# Altium footprint library Jump_254.PcbLib: 184 footprints (part 4 of 12)
Each footprint in its own frame and in the unit in brackets; x right, y up, seen from the top. Pads: shape width x height; smd on the part's side, far side on the other; paste and mask are expansions set on the pad; w line width, h text height; cw(c..) or ccw(c..) is an arc to the next point about the centre after c.
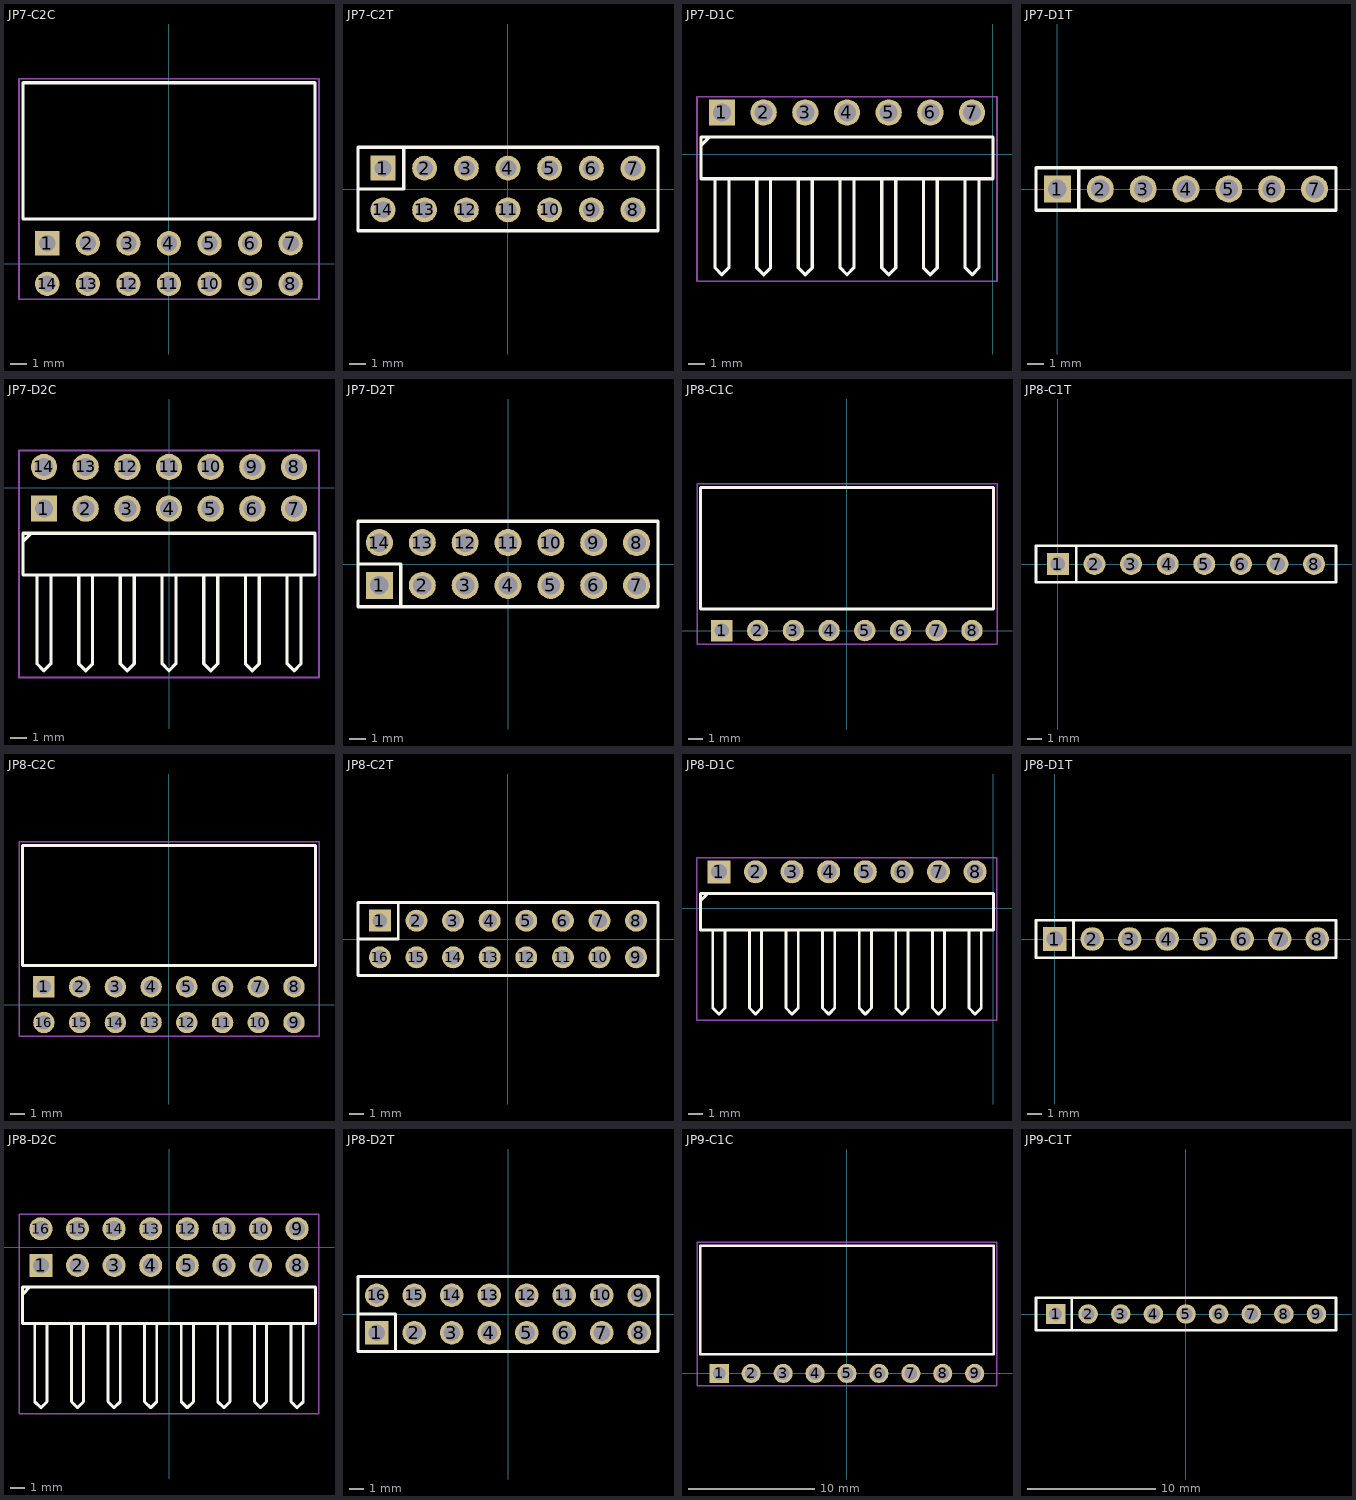
[diagram p3: the footprints below, top view; thin cyan lines are the x and y axes]

## JP7-C2C [mm] "14p 2 rows Right angle"
height 5.08
pads (14):
  rect 1.52x1.52 hole 1.02: 1(-7.62,1.27)
  round 1.52 hole 1.02: 2(-5.08,1.27) 3(-2.54,1.27) 4(0,1.27) 5(2.54,1.27) 6(5.08,1.27) 7(7.62,1.27) 8(7.62,-1.27) 9(5.08,-1.27) 10(2.54,-1.27) 11(0,-1.27) 12(-2.54,-1.27) 13(-5.08,-1.27) 14(-7.62,-1.27)
Top Overlay:
  lines w0.2: -9.144,2.794 9.144,2.794 9.144,11.316 -9.144,11.316 -9.144,2.794
Mechanical 15:
  lines w0.1: -9.39,-2.23 9.394,-2.23 9.394,11.566 -9.39,11.566 -9.39,-2.23
3D body "613014243121.stp": height 5.09, standoff -4.46, extent -9.14,-1.478 9.14,11.362

## JP7-C2T [mm] "14 pins, dual row, straight, gold plating"
height 8.5
pads (14):
  rect 1.52x1.52 hole 1.02: 1(-7.62,1.27)
  round 1.52 hole 1.02: 2(-5.08,1.27) 3(-2.54,1.27) 4(0,1.27) 5(2.54,1.27) 6(5.08,1.27) 7(7.62,1.27) 8(7.62,-1.27) 9(5.08,-1.27) 10(2.54,-1.27) 11(0,-1.27) 12(-2.54,-1.27) 13(-5.08,-1.27) 14(-7.62,-1.27)
Top Overlay:
  lines w0.2: -9.14,0 -6.35,0 -6.35,2.54 ; -9.14,-2.54 -9.14,2.54 9.14,2.54 9.14,-2.54 -9.14,-2.54
3D body "61301421821.stp": height 8.51, standoff -3.09, extent -9.14,-2.54 9.14,2.54

## JP7-D1C [mm] "7 pins, 1 row, right angled, gold plating"
height 2.54
pads (7):
  rect 1.6x1.6 hole 1.1: 1(-16.51,2.54)
  round 1.6 hole 1.1: 2(-13.97,2.54) 3(-11.43,2.54) 4(-8.89,2.54) 5(-6.35,2.54) 6(-3.81,2.54) 7(-1.27,2.54)
Top Overlay:
  lines w0.2: -17.738,0.574 -17.314,0.998 ; -16.933,-1.525 -16.933,-6.919 -16.51,-7.342 -16.087,-6.919 -16.087,-1.5 ; -14.393,-1.525 -14.393,-6.919 -13.97,-7.342 -13.547,-6.919 -13.547,-1.525 ; -11.853,-1.525 -11.853,-6.919 -11.43,-7.342 -11.007,-6.919 -11.007,-1.5 ; -9.313,-1.525 -9.313,-6.919 -8.89,-7.342 -8.467,-6.919 -8.467,-1.525 ; -6.773,-1.525 -6.773,-6.919 -6.35,-7.342 -5.927,-6.919 -5.927,-1.5 ; -4.233,-1.525 -4.233,-6.919 -3.81,-7.342 -3.387,-6.919 -3.387,-1.525 ; -1.693,-1.525 -1.693,-6.919 -1.27,-7.342 -0.847,-6.919 -0.847,-1.5 ; -17.78,-1.5 0,-1.5 0,1.04 -17.78,1.04 -17.78,-1.5
Mechanical 15:
  lines w0.1: -18.03,-7.75 -18.03,3.5 0.25,3.5 0.25,-7.75 -18.03,-7.75
3D body "61300711021.stp": height 2.55, standoff -2.99, extent -17.78,-7.524 0,2.836

## JP7-D1T [mm] "7 pins, 1 row, straight, gold plating"
height 8.54
pads (7):
  rect 1.6x1.6 hole 1.1: 1(0,0)
  round 1.6 hole 1.1: 2(2.54,0) 3(5.08,0) 4(7.62,0) 5(10.16,0) 6(12.7,0) 7(15.24,0)
Top Overlay:
  lines w0.2: 1.27,-1.27 1.27,1.27 ; -1.27,-1.27 16.51,-1.27 16.51,1.27 -1.27,1.27 -1.27,-1.27
3D body "61300711121.stp": height 8.54, standoff -3, extent -1.27,-1.27 16.51,1.27

## JP7-D2C [mm] "14 pins, dual row, right angled, gold plating"
height 5.08
pads (14):
  rect 1.6x1.6 hole 1.1: 1(-7.62,-1.27)
  round 1.6 hole 1.1: 2(-5.08,-1.27) 3(-2.54,-1.27) 4(0,-1.27) 5(2.54,-1.27) 6(5.08,-1.27) 7(7.62,-1.27) 8(7.62,1.27) 9(5.08,1.27) 10(2.54,1.27) 11(0,1.27) 12(-2.54,1.27) 13(-5.08,1.27) 14(-7.62,1.27)
Top Overlay:
  lines w0.2: -8.848,-3.236 -8.424,-2.812 ; -8.043,-5.335 -8.043,-10.729 -7.62,-11.152 -7.197,-10.729 -7.197,-5.31 ; -5.503,-5.335 -5.503,-10.729 -5.08,-11.152 -4.657,-10.729 -4.657,-5.335 ; -2.963,-5.335 -2.963,-10.729 -2.54,-11.152 -2.117,-10.729 -2.117,-5.31 ; -0.423,-5.335 -0.423,-10.729 0,-11.152 0.423,-10.729 0.423,-5.335 ; 2.117,-5.335 2.117,-10.729 2.54,-11.152 2.963,-10.729 2.963,-5.31 ; 4.657,-5.335 4.657,-10.729 5.08,-11.152 5.503,-10.729 5.503,-5.335 ; 7.197,-5.335 7.197,-10.729 7.62,-11.152 8.043,-10.729 8.043,-5.31 ; -8.89,-5.31 8.89,-5.31 8.89,-2.77 -8.89,-2.77 -8.89,-5.31
Mechanical 15:
  lines w0.1: -9.14,-11.56 -9.14,2.27 9.14,2.27 9.14,-11.56 -9.14,-11.56
3D body "61301421021.stp": height 5.09, standoff -2.99, extent -8.89,-11.334 8.89,1.566

## JP7-D2T [mm] "14 pins, dual pin, straight, gold plating"
height 8.54
pads (14):
  rect 1.6x1.6 hole 1.1: 1(-7.62,-1.27)
  round 1.6 hole 1.1: 2(-5.08,-1.27) 3(-2.54,-1.27) 4(0,-1.27) 5(2.54,-1.27) 6(5.08,-1.27) 7(7.62,-1.27) 8(7.62,1.27) 9(5.08,1.27) 10(2.54,1.27) 11(0,1.27) 12(-2.54,1.27) 13(-5.08,1.27) 14(-7.62,1.27)
Top Overlay:
  lines w0.2: -8.89,0 -6.35,0 -6.35,-2.54 ; -8.89,-2.54 -8.89,2.54 8.89,2.54 8.89,-2.54 -8.89,-2.54
3D body "61301421121.stp": height 8.55, standoff -2.99, extent -8.89,-2.54 8.89,2.54

## JP8-C1C [mm] "08p 1 row Right angle"
height 2.5
pads (8):
  rect 1.52x1.52 hole 1.02: 1(-8.89,0)
  round 1.52 hole 1.02: 2(-6.35,0) 3(-3.81,0) 4(-1.27,0) 5(1.27,0) 6(3.81,0) 7(6.35,0) 8(8.89,0)
Top Overlay:
  lines w0.2: -10.414,1.524 -10.414,10.173 10.414,10.173 10.414,1.524 -10.414,1.524
Mechanical 15:
  lines w0.1: -10.66,-0.96 -10.66,10.423 10.664,10.423 10.664,-0.96 -10.66,-0.96
3D body "613008143121.stp": height 2.51, standoff -3.08, extent -10.41,-0.254 10.41,10.046

## JP8-C1T [mm] "8 row, straight, gold plating"
height 8.5
pads (8):
  rect 1.52x1.52 hole 1.02: 1(0,0)
  round 1.52 hole 1.02: 2(2.54,0) 3(5.08,0) 4(7.62,0) 5(10.16,0) 6(12.7,0) 7(15.24,0) 8(17.78,0)
Top Overlay:
  lines w0.2: 1.27,-1.27 1.27,1.27 ; -1.52,-1.27 -1.52,1.27 19.3,1.27 19.3,-1.27 -1.52,-1.27
3D body "61300811821.stp": height 8.51, standoff -3.09, extent -1.52,-1.25 19.3,1.25

## JP8-C2C [mm] "16p 2 rows Right angle"
height 5.08
pads (16):
  rect 1.52x1.52 hole 1.02: 1(-8.89,1.27)
  round 1.52 hole 1.02: 2(-6.35,1.27) 3(-3.81,1.27) 4(-1.27,1.27) 5(1.27,1.27) 6(3.81,1.27) 7(6.35,1.27) 8(8.89,1.27) 9(8.89,-1.27) 10(6.35,-1.27) 11(3.81,-1.27) 12(1.27,-1.27) 13(-1.27,-1.27) 14(-3.81,-1.27) 15(-6.35,-1.27) 16(-8.89,-1.27)
Top Overlay:
  lines w0.2: -10.414,2.794 10.414,2.794 10.414,11.316 -10.414,11.316 -10.414,2.794
Mechanical 15:
  lines w0.1: -10.66,-2.23 10.664,-2.23 10.664,11.566 -10.66,11.566 -10.66,-2.23
3D body "613016243121.stp": height 5.09, standoff -4.46, extent -10.41,-1.478 10.41,11.362

## JP8-C2T [mm] "16 pins, dual row, straight, gold plating"
height 8.5
pads (16):
  rect 1.52x1.52 hole 1.02: 1(-8.89,1.27)
  round 1.52 hole 1.02: 2(-6.35,1.27) 3(-3.81,1.27) 4(-1.27,1.27) 5(1.27,1.27) 6(3.81,1.27) 7(6.35,1.27) 8(8.89,1.27) 9(8.89,-1.27) 10(6.35,-1.27) 11(3.81,-1.27) 12(1.27,-1.27) 13(-1.27,-1.27) 14(-3.81,-1.27) 15(-6.35,-1.27) 16(-8.89,-1.27)
Top Overlay:
  lines w0.2: -10.41,0 -7.62,0 -7.62,2.54 ; -10.41,-2.54 -10.41,2.54 10.41,2.54 10.41,-2.54 -10.41,-2.54
3D body "61301621821.stp": height 8.51, standoff -3.09, extent -10.41,-2.54 10.41,2.54

## JP8-D1C [mm] "8 pins, 1 row, right angled, gold plating"
height 2.54
pads (8):
  rect 1.6x1.6 hole 1.1: 1(-19.05,2.54)
  round 1.6 hole 1.1: 2(-16.51,2.54) 3(-13.97,2.54) 4(-11.43,2.54) 5(-8.89,2.54) 6(-6.35,2.54) 7(-3.81,2.54) 8(-1.27,2.54)
Top Overlay:
  lines w0.2: -20.278,0.574 -19.854,0.998 ; -19.473,-1.525 -19.473,-6.919 -19.05,-7.342 -18.627,-6.919 -18.627,-1.5 ; -16.933,-1.525 -16.933,-6.919 -16.51,-7.342 -16.087,-6.919 -16.087,-1.525 ; -14.393,-1.525 -14.393,-6.919 -13.97,-7.342 -13.547,-6.919 -13.547,-1.5 ; -11.853,-1.525 -11.853,-6.919 -11.43,-7.342 -11.007,-6.919 -11.007,-1.525 ; -9.313,-1.525 -9.313,-6.919 -8.89,-7.342 -8.467,-6.919 -8.467,-1.5 ; -6.773,-1.525 -6.773,-6.919 -6.35,-7.342 -5.927,-6.919 -5.927,-1.525 ; -4.233,-1.525 -4.233,-6.919 -3.81,-7.342 -3.387,-6.919 -3.387,-1.5 ; -1.693,-1.525 -1.693,-6.919 -1.27,-7.342 -0.847,-6.919 -0.847,-1.525 ; -20.32,-1.5 -20.32,1.04 0,1.04 0,-1.5 -20.32,-1.5
Mechanical 15:
  lines w0.1: -20.57,-7.75 -20.57,3.5 0.25,3.5 0.25,-7.75 -20.57,-7.75
3D body "61300811021.stp": height 2.55, standoff -2.99, extent -20.32,-7.524 0,2.836

## JP8-D1T [mm] "8 pins, 1 row, straight, gold plating"
height 8.54
pads (8):
  rect 1.6x1.6 hole 1.1: 1(0,0)
  round 1.6 hole 1.1: 2(2.54,0) 3(5.08,0) 4(7.62,0) 5(10.16,0) 6(12.7,0) 7(15.24,0) 8(17.78,0)
Top Overlay:
  lines w0.2: 1.27,-1.27 1.27,1.27 ; -1.27,-1.27 19.05,-1.27 19.05,1.27 -1.27,1.27 -1.27,-1.27
3D body "61300811121.stp": height 8.54, standoff -3, extent -1.27,-1.27 19.05,1.27

## JP8-D2C [mm] "16 pins, dual row, right angled, gold plating"
height 5.08
pads (16):
  rect 1.6x1.6 hole 1.1: 1(-8.89,-1.27)
  round 1.6 hole 1.1: 2(-6.35,-1.27) 3(-3.81,-1.27) 4(-1.27,-1.27) 5(1.27,-1.27) 6(3.81,-1.27) 7(6.35,-1.27) 8(8.89,-1.27) 9(8.89,1.27) 10(6.35,1.27) 11(3.81,1.27) 12(1.27,1.27) 13(-1.27,1.27) 14(-3.81,1.27) 15(-6.35,1.27) 16(-8.89,1.27)
Top Overlay:
  lines w0.2: -10.118,-3.236 -9.694,-2.812 ; -9.313,-5.335 -9.313,-10.729 -8.89,-11.152 -8.467,-10.729 -8.467,-5.31 ; -6.773,-5.335 -6.773,-10.729 -6.35,-11.152 -5.927,-10.729 -5.927,-5.335 ; -4.233,-5.335 -4.233,-10.729 -3.81,-11.152 -3.387,-10.729 -3.387,-5.31 ; -1.693,-5.335 -1.693,-10.729 -1.27,-11.152 -0.847,-10.729 -0.847,-5.335 ; 0.847,-5.335 0.847,-10.729 1.27,-11.152 1.693,-10.729 1.693,-5.31 ; 3.387,-5.335 3.387,-10.729 3.81,-11.152 4.233,-10.729 4.233,-5.335 ; 5.927,-5.335 5.927,-10.729 6.35,-11.152 6.773,-10.729 6.773,-5.31 ; 8.467,-5.335 8.467,-10.729 8.89,-11.152 9.313,-10.729 9.313,-5.335 ; -10.16,-5.31 10.16,-5.31 10.16,-2.77 -10.16,-2.77 -10.16,-5.31
Mechanical 15:
  lines w0.1: -10.41,-11.56 10.41,-11.56 10.41,2.27 -10.41,2.27 -10.41,-11.56
3D body "61301621021.stp": height 5.09, standoff -2.99, extent -10.16,-11.334 10.16,1.566

## JP8-D2T [mm] "16 pins, dual pin, straight, gold plating"
height 8.54
pads (16):
  rect 1.6x1.6 hole 1.1: 1(-8.89,-1.27)
  round 1.6 hole 1.1: 2(-6.35,-1.27) 3(-3.81,-1.27) 4(-1.27,-1.27) 5(1.27,-1.27) 6(3.81,-1.27) 7(6.35,-1.27) 8(8.89,-1.27) 9(8.89,1.27) 10(6.35,1.27) 11(3.81,1.27) 12(1.27,1.27) 13(-1.27,1.27) 14(-3.81,1.27) 15(-6.35,1.27) 16(-8.89,1.27)
Top Overlay:
  lines w0.2: -10.16,0 -7.62,0 -7.62,-2.54 ; -10.16,-2.54 10.16,-2.54 10.16,2.54 -10.16,2.54 -10.16,-2.54
3D body "61301621121.stp": height 8.55, standoff -2.99, extent -10.16,-2.54 10.16,2.54

## JP9-C1C [mm] "09p 1 row Right angle"
height 2.5
pads (9):
  rect 1.52x1.52 hole 1.02: 1(-10.16,0)
  round 1.52 hole 1.02: 2(-7.62,0) 3(-5.08,0) 4(-2.54,0) 5(0,0) 6(2.54,0) 7(5.08,0) 8(7.62,0) 9(10.16,0)
Top Overlay:
  lines w0.2: -11.684,1.524 11.684,1.524 11.684,10.173 -11.684,10.173 -11.684,1.524
Mechanical 15:
  lines w0.1: -11.93,-0.96 -11.93,10.423 11.934,10.423 11.934,-0.96 -11.93,-0.96
3D body "613009143121.stp": height 2.51, standoff -3.08, extent -11.68,-0.208 11.68,10.092

## JP9-C1T [mm] "9 row, straight, gold plating"
height 8.5
pads (9):
  rect 1.52x1.52 hole 1.02: 1(-10.16,0)
  round 1.52 hole 1.02: 2(-7.62,0) 3(-5.08,0) 4(-2.54,0) 5(0,0) 6(2.54,0) 7(5.08,0) 8(7.62,0) 9(10.16,0)
Top Overlay:
  lines w0.2: -8.89,-1.27 -8.89,1.27 ; -11.68,-1.27 -11.68,1.27 11.68,1.27 11.68,-1.27 -11.68,-1.27
3D body "61300911821.stp": height 8.51, standoff -3.09, extent -11.68,-1.25 11.68,1.25